# EAGLE library part DS2438 (library ARVP)
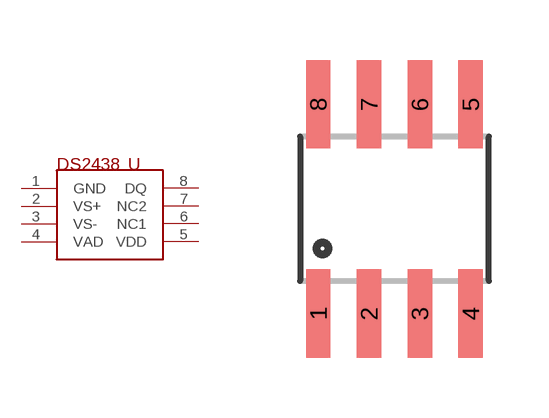
[diagram p23: symbol with the pads of SOIC8; footprint SOIC8]

Designator prefix -

## DS2438Z  [SOIC8]
1  GND  pwr
2  VS+
3  VS-
4  VAD
5  VDD  pwr
6  NC1  nc
7  NC2  nc
8  DQ

## Footprint SOIC8 (pad centres in mm)
smd 0.61 x 2.21: 1 -1.905,-2.616; 2 -0.635,-2.616; 3 0.635,-2.616; 4 1.905,-2.616; 5 1.905,2.616; 6 0.635,2.616; 7 -0.635,2.616; 8 -1.905,2.616